# EAGLE library part PCA9671 (library SKAARHOJ)
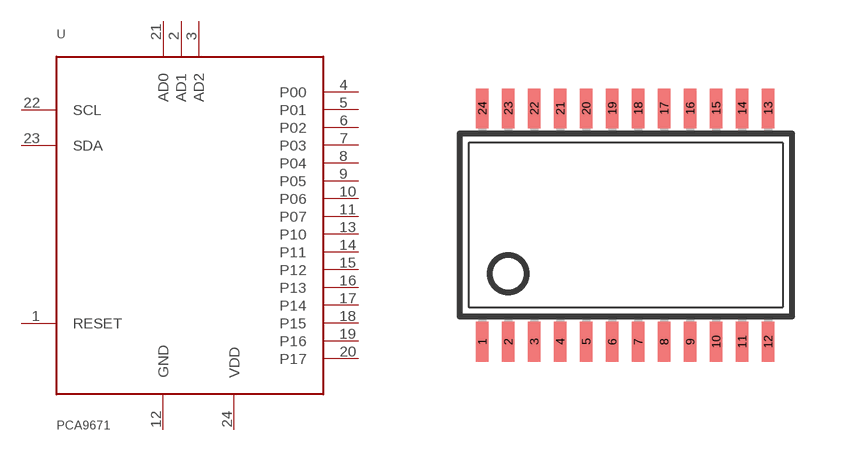
[diagram p18: symbol with the pads of TSSOP24; footprint TSSOP24]

Designator prefix -

## PCA9671  [TSSOP24]
1  RESET  in
2  AD1  in
3  AD2  in
4  P00  out
5  P01  out
6  P02  out
7  P03  out
8  P04  out
9  P05  out
10  P06  out
11  P07  out
12  GND  pwr
13  P10  out
14  P11  out
15  P12  out
16  P13  out
17  P14  out
18  P15  out
19  P16  out
20  P17  out
21  AD0  in
22  SCL  in
23  SDA  in
24  VDD  pwr

## Footprint TSSOP24 (pad centres in mm)
Thin Shrink Small Outline Plastic 28 MAX3223-MAX3243.pdf
smd 0.305 x 0.991: 1 -4.225,-2.918; 2 -3.575,-2.918; 3 -2.925,-2.918; 4 -2.275,-2.918; 5 -1.625,-2.918; 6 -0.975,-2.918; 7 -0.325,-2.918; 8 0.325,-2.918; 9 0.975,-2.918; 10 1.625,-2.918; 11 2.275,-2.918; 12 2.925,-2.918; 13 2.925,2.918; 14 2.275,2.918; 15 1.625,2.918; 16 0.975,2.918; 17 0.325,2.918; 18 -0.325,2.918; 19 -0.975,2.918; 20 -1.625,2.918; 21 -2.275,2.918; 22 -2.925,2.918; 23 -3.575,2.918; 24 -4.225,2.918